# Altium footprint library footprints.PcbLib: 64 footprints (part 2 of 4)
Each footprint in its own frame and in the unit in brackets; x right, y up, seen from the top. Pads: shape width x height; smd on the part's side, far side on the other; paste and mask are expansions set on the pad; w line width, h text height; cw(c..) or ccw(c..) is an arc to the next point about the centre after c.
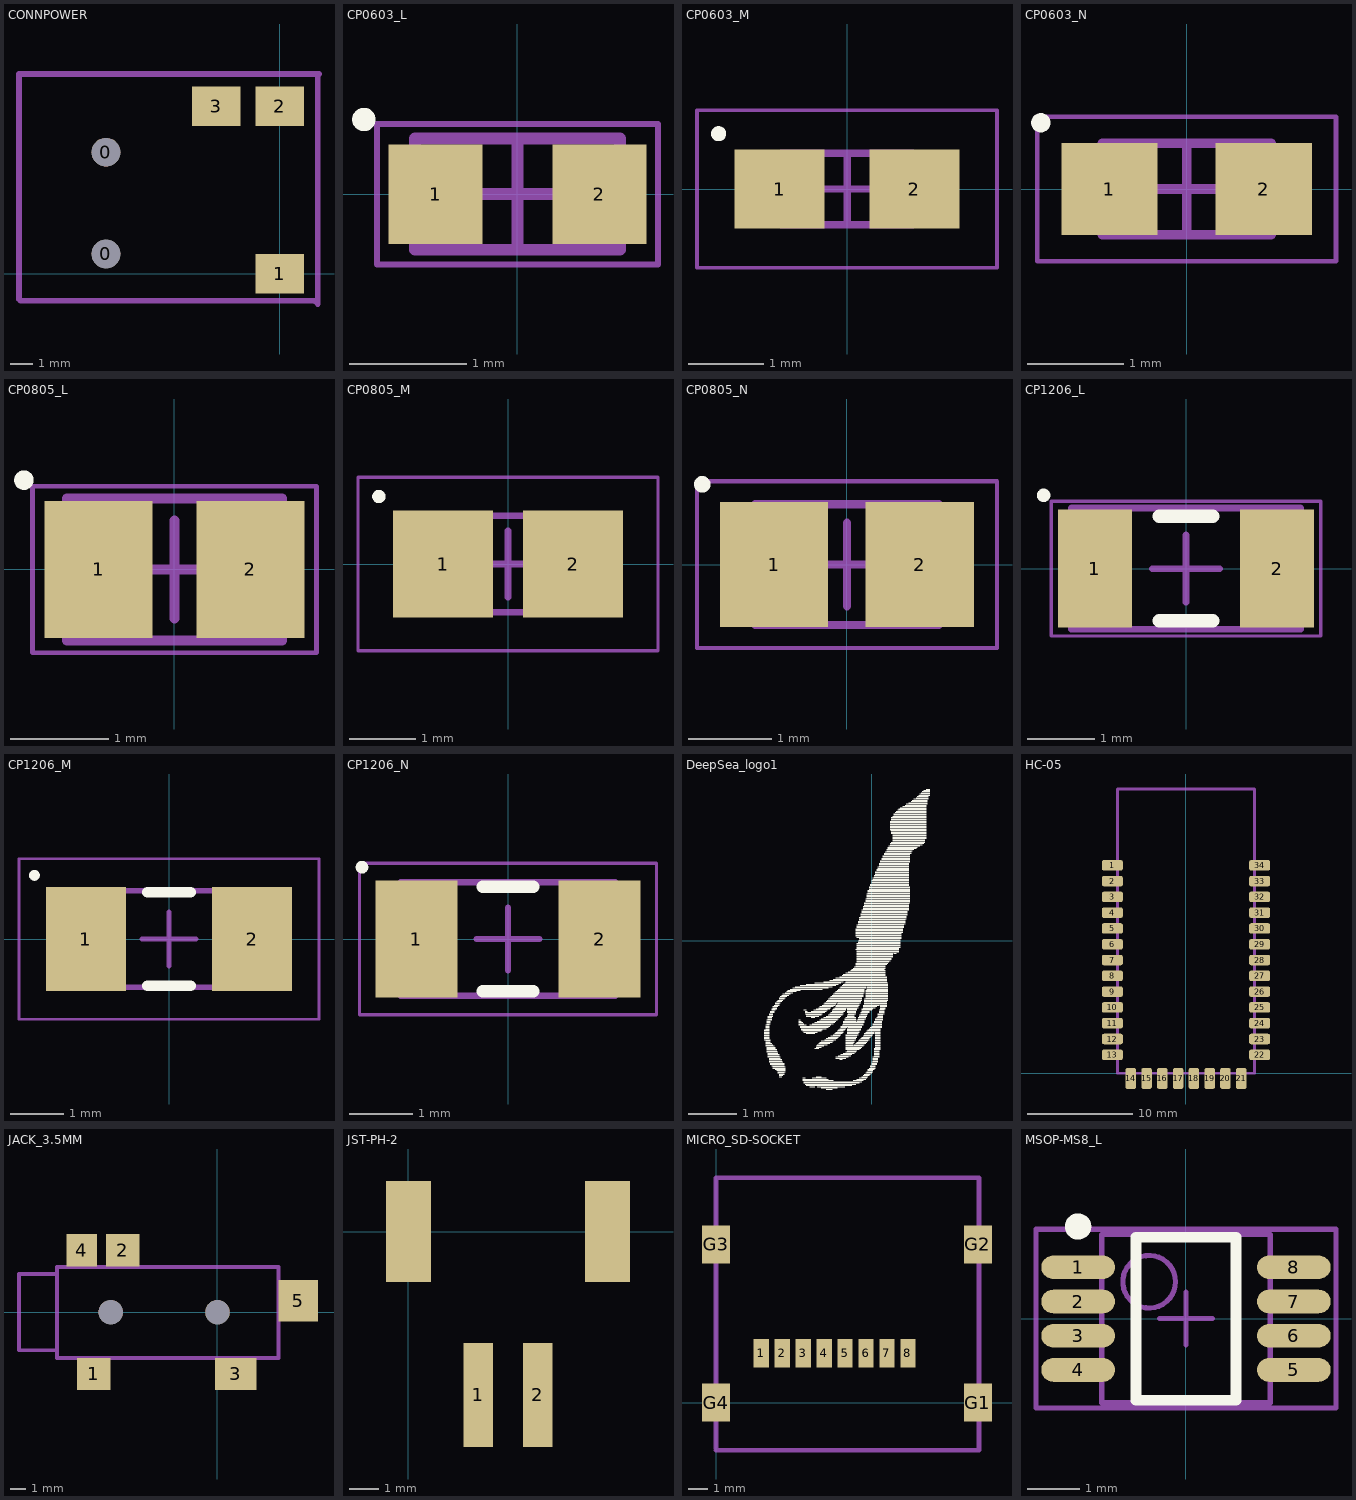
[diagram p1: the footprints below, top view; thin cyan lines are the x and y axes]

## CONNPOWER [mm]
pads (5):
  round 1.3 hole 1.3: 0(-7.9,0.9) 0(-7.9,5.525)
  rect 2.2x1.8 smd: 1(0,0) 2(0,7.6) 3(-2.9,7.6)
Mechanical 15:
  lines w0.254: -11.85,-1.15 -11.85,9.075 1.775,9.075 1.725,9.025 1.725,-1.375 1.575,-1.225 -11.775,-1.225 -11.85,-1.15
3D body: height 6, standoff 0, extent -11.525,-0.8 1.15,7.65

## CP0603_L [mm] "Chip Capacitor, 2-Leads, Body 1,60x0,80mm, IPC High Density"
height 0.85
pads (2):
  rect 0.8x0.85 smd: 1(-0.7,0) 2(0.7,0)
Top Overlay:
  circle w0.1: c-1.312,0.637 r0.05
Mechanical 13:
  lines w0.1: -0.875,-0.475 0.875,-0.475 0.875,0.475 -0.875,0.475 -0.875,-0.475
Mechanical 15:
  lines w0.05: -1.2,-0.6 1.2,-0.6 1.2,0.6 -1.2,0.6 -1.2,-0.6
  lines w0.1: -0.475,0 0.475,0 ; 0,-0.475 0,0.475
3D body: height 0.85, standoff 0, extent 0.525,-0.475 0.875,0.475
3D body: height 0.85, standoff 0, extent -0.875,-0.475 -0.525,0.475
3D body: height 0.85, standoff 0, extent -0.525,-0.475 0.525,0.475

## CP0603_M [mm] "Chip Capacitor, 2-Leads, Body 1,60x0,80mm, IPC Low Density"
height 0.85
pads (2):
  rect 1.2x1.05 smd: 1(-0.9,0) 2(0.9,0)
Top Overlay:
  circle w0.1: c-1.712,0.737 r0.05
Mechanical 13:
  lines w0.1: -0.875,-0.475 0.875,-0.475 0.875,0.475 -0.875,0.475 -0.875,-0.475
Mechanical 15:
  lines w0.05: -2,-1.05 2,-1.05 2,1.05 -2,1.05 -2,-1.05
  lines w0.1: -0.475,0 0.475,0 ; 0,-0.475 0,0.475
3D body: height 0.85, standoff 0, extent 0.525,-0.475 0.875,0.475
3D body: height 0.85, standoff 0, extent -0.875,-0.475 -0.525,0.475
3D body: height 0.85, standoff 0, extent -0.525,-0.475 0.525,0.475

## CP0603_N [mm] "Chip Capacitor, 2-Leads, Body 1,60x0,80mm, IPC Medium Density"
height 0.85
pads (2):
  rect 1x0.95 smd: 1(-0.8,0) 2(0.8,0)
Top Overlay:
  circle w0.1: c-1.512,0.687 r0.05
Mechanical 13:
  lines w0.1: -0.875,-0.475 0.875,-0.475 0.875,0.475 -0.875,0.475 -0.875,-0.475
Mechanical 15:
  lines w0.05: -1.55,-0.75 1.55,-0.75 1.55,0.75 -1.55,0.75 -1.55,-0.75
  lines w0.1: -0.475,0 0.475,0 ; 0,-0.475 0,0.475
3D body: height 0.85, standoff 0, extent 0.525,-0.475 0.875,0.475
3D body: height 0.85, standoff 0, extent -0.875,-0.475 -0.525,0.475
3D body: height 0.85, standoff 0, extent -0.525,-0.475 0.525,0.475

## CP0805_L [mm] "Chip Capacitor, 2-Leads, Body 2,00x1,25mm, IPC High Density"
height 1.1
pads (2):
  rect 1.1x1.4 smd: 1(-0.775,0) 2(0.775,0)
Top Overlay:
  circle w0.1: c-1.537,0.912 r0.05
Mechanical 13:
  lines w0.1: -1.1,-0.725 -1.1,0.725 1.1,0.725 1.1,-0.725 -1.1,-0.725
Mechanical 15:
  lines w0.05: -1.45,-0.85 -1.45,0.85 1.45,0.85 1.45,-0.85 -1.45,-0.85
  lines w0.1: -0.5,0 0.5,0 ; 0,-0.5 0,0.5
3D body: height 1.1, standoff 0, extent -0.6,-0.725 0.6,0.725
3D body: height 1.1, standoff 0, extent -1.1,-0.725 -0.6,0.725
3D body: height 1.1, standoff 0, extent 0.6,-0.725 1.1,0.725

## CP0805_M [mm] "Chip Capacitor, 2-Leads, Body 2,00x1,25mm, IPC Low Density"
height 1.1
pads (2):
  rect 1.5x1.6 smd: 1(-0.975,0) 2(0.975,0)
Top Overlay:
  circle w0.1: c-1.937,1.012 r0.05
Mechanical 13:
  lines w0.1: -1.1,-0.725 -1.1,0.725 1.1,0.725 1.1,-0.725 -1.1,-0.725
Mechanical 15:
  lines w0.05: -2.25,-1.3 -2.25,1.3 2.25,1.3 2.25,-1.3 -2.25,-1.3
  lines w0.1: -0.5,0 0.5,0 ; 0,-0.5 0,0.5
3D body: height 1.1, standoff 0, extent -0.6,-0.725 0.6,0.725
3D body: height 1.1, standoff 0, extent -1.1,-0.725 -0.6,0.725
3D body: height 1.1, standoff 0, extent 0.6,-0.725 1.1,0.725

## CP0805_N [mm] "Chip Capacitor, 2-Leads, Body 2,00x1,25mm, IPC Medium Density"
height 1.1
pads (2):
  rect 1.3x1.5 smd: 1(-0.875,0) 2(0.875,0)
Top Overlay:
  circle w0.1: c-1.737,0.962 r0.05
Mechanical 13:
  lines w0.1: -1.1,-0.725 -1.1,0.725 1.1,0.725 1.1,-0.725 -1.1,-0.725
Mechanical 15:
  lines w0.05: -1.8,-1 -1.8,1 1.8,1 1.8,-1 -1.8,-1
  lines w0.1: -0.5,0 0.5,0 ; 0,-0.5 0,0.5
3D body: height 1.1, standoff 0, extent -0.6,-0.725 0.6,0.725
3D body: height 1.1, standoff 0, extent -1.1,-0.725 -0.6,0.725
3D body: height 1.1, standoff 0, extent 0.6,-0.725 1.1,0.725

## CP1206_L [mm] "Chip Capacitor, 2-Leads, Body 3,20x1,60mm, IPC High Density"
height 1.35
pads (2):
  rect 1.1x1.75 smd: 1(-1.35,0) 2(1.35,0)
Top Overlay:
  circle w0.1: c-2.112,1.087 r0.05
  lines w0.2: -0.4,-0.775 0.4,-0.775 ; -0.4,0.775 0.4,0.775
Mechanical 13:
  lines w0.1: -1.7,-0.9 1.7,-0.9 1.7,0.9 -1.7,0.9 -1.7,-0.9
Mechanical 15:
  lines w0.05: -2,-1 2,-1 2,1 -2,1 -2,-1
  lines w0.1: -0.5,0 0.5,0 ; 0,-0.5 0,0.5
3D body: height 1.35, standoff 0, extent 1.2,-0.9 1.7,0.9
3D body: height 1.35, standoff 0, extent -1.7,-0.9 -1.2,0.9
3D body: height 1.35, standoff 0, extent -1.2,-0.9 1.2,0.9

## CP1206_M [mm] "Chip Capacitor, 2-Leads, Body 3,20x1,60mm, IPC Low Density"
height 1.35
pads (2):
  rect 1.5x1.95 smd: 1(-1.55,0) 2(1.55,0)
Top Overlay:
  circle w0.1: c-2.512,1.187 r0.05
  lines w0.2: -0.4,-0.875 0.4,-0.875 ; -0.4,0.875 0.4,0.875
Mechanical 13:
  lines w0.1: -1.7,-0.9 1.7,-0.9 1.7,0.9 -1.7,0.9 -1.7,-0.9
Mechanical 15:
  lines w0.05: -2.8,-1.5 2.8,-1.5 2.8,1.5 -2.8,1.5 -2.8,-1.5
  lines w0.1: -0.5,0 0.5,0 ; 0,-0.5 0,0.5
3D body: height 1.35, standoff 0, extent 1.2,-0.9 1.7,0.9
3D body: height 1.35, standoff 0, extent -1.7,-0.9 -1.2,0.9
3D body: height 1.35, standoff 0, extent -1.2,-0.9 1.2,0.9

## CP1206_N [mm] "Chip Capacitor, 2-Leads, Body 3,20x1,60mm, IPC Medium Density"
height 1.35
pads (2):
  rect 1.3x1.85 smd: 1(-1.45,0) 2(1.45,0)
Top Overlay:
  circle w0.1: c-2.312,1.137 r0.05
  lines w0.2: -0.4,-0.825 0.4,-0.825 ; -0.4,0.825 0.4,0.825
Mechanical 13:
  lines w0.1: -1.7,-0.9 1.7,-0.9 1.7,0.9 -1.7,0.9 -1.7,-0.9
Mechanical 15:
  lines w0.05: -2.35,-1.2 2.35,-1.2 2.35,1.2 -2.35,1.2 -2.35,-1.2
  lines w0.1: -0.5,0 0.5,0 ; 0,-0.5 0,0.5
3D body: height 1.35, standoff 0, extent 1.2,-0.9 1.7,0.9
3D body: height 1.35, standoff 0, extent -1.7,-0.9 -1.2,0.9
3D body: height 1.35, standoff 0, extent -1.2,-0.9 1.2,0.9

## DeepSea_logo1 [mm]
Top Overlay:
  drawing of 473 lines, arcs and shapes, not listed

## HC-05 [mm]
pads (34):
  rrect40% 2x1 smd: 1(-7,19.75) 2(-7,18.25) 3(-7,16.75) 4(-7,15.25) 5(-7,13.75) 6(-7,12.25) 7(-7,10.75) 8(-7,9.25) 9(-7,7.75) 10(-7,6.25) 11(-7,4.75) 12(-7,3.25) 13(-7,1.75) 22(7,1.75) 23(7,3.25) 24(7,4.75) 25(7,6.25) 26(7,7.75) 27(7,9.25) 28(7,10.75) 29(7,12.25) 30(7,13.75) 31(7,15.25) 32(7,16.75) 33(7,18.25) 34(7,19.75)
  rrect40% 1x2 smd: 14(-5.25,-0.5) 15(-3.75,-0.5) 16(-2.25,-0.5) 17(-0.75,-0.5) 18(0.75,-0.5) 19(2.25,-0.5) 20(3.75,-0.5) 21(5.25,-0.5)
Mechanical 13:
  lines w0.254: -6.5,0 6.5,0 6.5,27 -6.5,27 -6.5,0
3D body: height 2.4, standoff -0.04, extent -6.425,-0.05 6.577,26.851

## JACK_3.5MM [mm]
pads (7):
  rect 2.2x2.1 smd: 1(-8.1,-4.05) 2(-6.2,4.05)
  rect 2.7x2.1 smd: 3(1.2,-4.05)
  rect 2x2.1 smd: 4(-8.9,4.05)
  rect 2.6x2.7 smd: 5(5.3,0.75)
  round 1.6 hole 1.6: ""(-7,0) ""(0,0)
Mechanical 13:
  lines w0.254: -10.525,-2.5 -13,-2.5 -13,2.5 -10.5,2.5 ; -10.5,-3 4,-3 4,2.95 -10.5,2.95 -10.5,-3
3D body: height 5, standoff 0, extent -13,-3 4,2.95

## JST-PH-2 [mm]
pads (4):
  rect 1x3.5 smd: 1(2.35,-5.5) 2(4.35,-5.5)
  rect 1.5x3.4 smd: ""(0,0) ""(6.7,0)
3D body: height 4.8, standoff -2, extent 0.4,-7.15 6.3,0.45

## MICRO_SD-SOCKET [mm]
pads (12):
  rect 0.8x1.5 smd: 1(2.375,2.6) 2(3.475,2.6) 3(4.575,2.6) 4(5.675,2.6) 5(6.775,2.6) 6(7.875,2.6) 7(8.975,2.6) 8(10.075,2.6)
  rect 1.45x2 smd: G1(13.75,0) G2(13.75,8.3) G3(0,8.3) G4(0,0)
Mechanical 15:
  lines w0.254: 0,-2.5 13.8,-2.5 13.8,11.8 0,11.8 0,-2.4
3D body: height 1.67, standoff -0.06, extent -0.475,-3.65 14.125,12.35

## MSOP-MS8_L [mm] "TSOP, 8-Leads, Body 3x3mm, Pitch 0.65mm, IPC High Density"
height 1.1
pads (8):
  oval 1.4x0.45 smd: 1(-2.05,0.975) 2(-2.05,0.325) 3(-2.05,-0.325) 4(-2.05,-0.975) 5(2.05,-0.975) 6(2.05,-0.325) 7(2.05,0.325) 8(2.05,0.975)
Top Overlay:
  circle w0.25: c-2.05,1.75 r0.125
  lines w0.2: -0.95,-1.55 -0.95,1.55 0.95,1.55 0.95,-1.55 -0.95,-1.55
Mechanical 13:
  circle w0.1: c-0.7,0.7 r0.5
  lines w0.1: -1.6,-1.6 -1.6,1.6 1.6,1.6 1.6,-1.6 -1.6,-1.6
Mechanical 15:
  lines w0.1: -0.5,0 0.5,0 ; 0,-0.5 0,0.5 ; -2.85,-1.7 -2.85,1.7 2.85,1.7 2.85,-1.7 -2.85,-1.7
3D body: height 1.1, standoff 0, extent -1.6,-1.6 1.6,1.6